# Altium footprint library Discrete.PcbLib: 2 footprints
Each footprint in its own frame and in the unit in brackets; x right, y up, seen from the top. Pads: shape width x height; smd on the part's side, far side on the other; paste and mask are expansions set on the pad; w line width, h text height; cw(c..) or ccw(c..) is an arc to the next point about the centre after c.
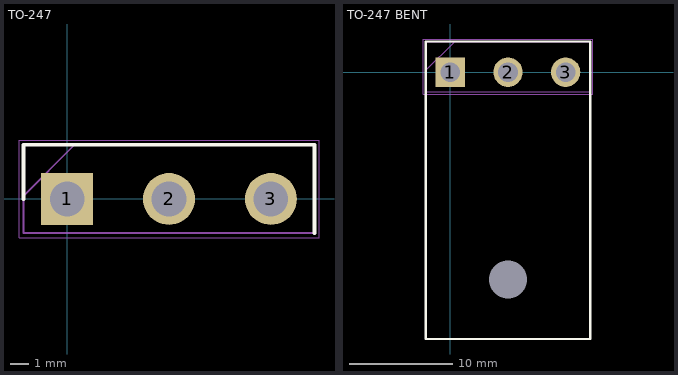
[diagram p0: the footprints below, top view; thin cyan lines are the x and y axes]

## TO-247 [mm]
pads (3):
  rect 2.835x2.835 / inner round 2.835 / far side rect 2.835x2.835 hole 1.89: 1(0,0)
  round 2.835 hole 1.89: 2(5.56,0) 3(11.12,0)
Top Overlay:
  lines w0.2: -2.375,0 -2.375,2.955 13.495,2.955 13.495,-1.865
Mechanical 15:
  lines w0.1: -2.375,0.175 0.405,2.955 ; -2.375,-1.865 13.495,-1.865 13.495,2.955 -2.375,2.955 -2.375,-1.865
Mechanical 20:
  lines w0.05: -2.625,-2.115 13.745,-2.115 13.745,3.205 -2.625,3.205 -2.625,-2.115
3D body: height 24.95, standoff -9.95, extent -2.365,-2.375 13.485,2.925

## TO-247 BENT [mm]
pads (4):
  round 0 hole 3.65: 0(5.56,-20)
  rect 2.835x2.835 / inner round 2.835 / far side rect 2.835x2.835 hole 1.89: 1(0,0)
  round 2.835 hole 1.89: 2(5.56,0) 3(11.12,0)
Top Overlay:
  lines w0.2: -2.375,-25.747 -2.375,2.955 13.495,2.955 13.495,-25.747 -2.375,-25.747
Mechanical 15:
  lines w0.1: -2.375,0.175 0.405,2.955 ; -2.375,-1.865 -2.375,2.955 13.495,2.955 13.495,-1.865 -2.375,-1.865
Mechanical 20:
  lines w0.05: -2.625,-2.115 -2.625,3.205 13.745,3.205 13.745,-2.115 -2.625,-2.115
3D body: height 6.73, standoff -6, extent -2.159,-25.586 13.421,0.439